# Altium footprint library led_ver2.PcbLib: 62 footprints (part 3 of 4)
Each footprint in its own frame and in the unit in brackets; x right, y up, seen from the top. Pads: shape width x height; smd on the part's side, far side on the other; paste and mask are expansions set on the pad; w line width, h text height; cw(c..) or ccw(c..) is an arc to the next point about the centre after c.
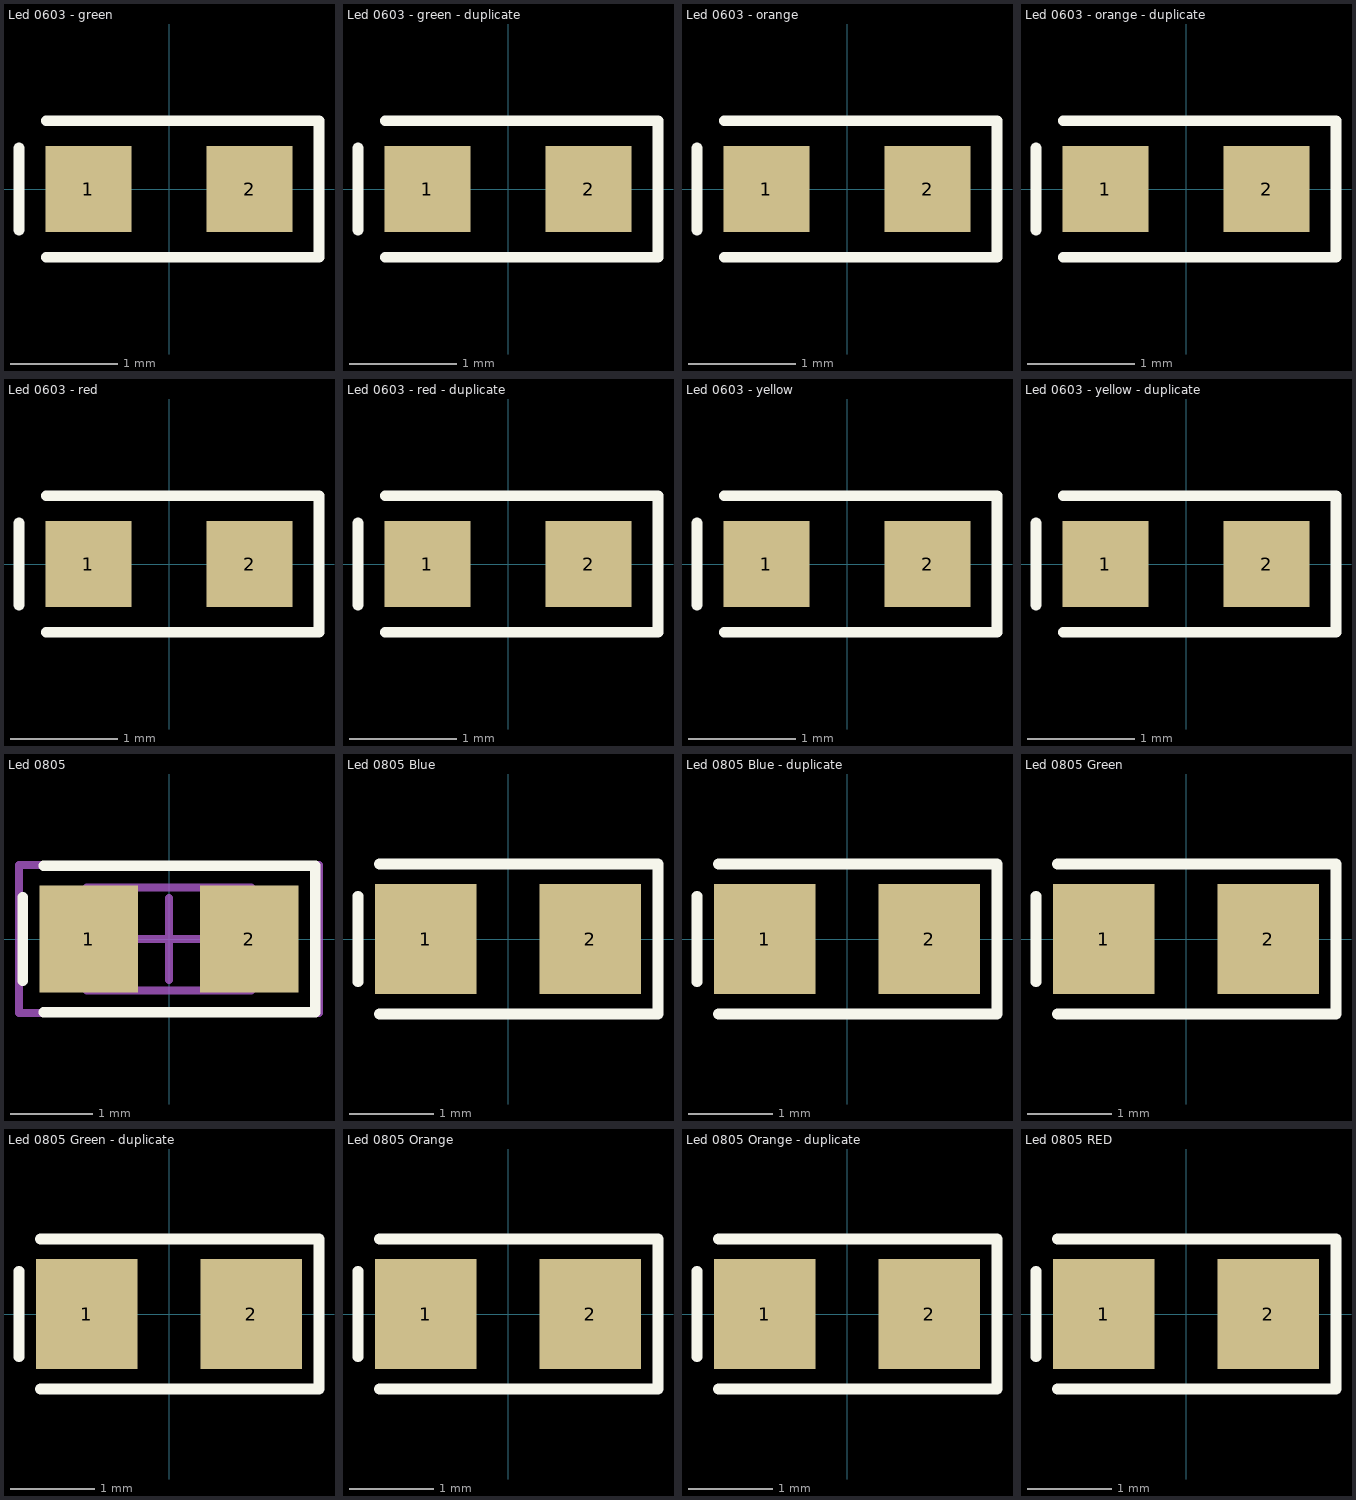
[diagram p2: the footprints below, top view; thin cyan lines are the x and y axes]

## Led 0603 - green [mm] "Led SMD 0603"
height 0.8
pads (2):
  rect 0.8x0.8 smd: 1(-0.75,0) 2(0.75,0)
Top Overlay:
  lines w0.1: -1.397,-0.381 -1.397,0.381 ; -1.143,-0.635 1.397,-0.635 1.397,0.635 -1.143,0.635
3D body "User Library-led_0603-green.step": height 0.6, standoff 0, extent -0.81,-0.4 0.81,0.4

## Led 0603 - green - duplicate [mm] "Led SMD 0603"
height 0.8
pads (2):
  rect 0.8x0.8 smd: 1(-0.75,0) 2(0.75,0)
Top Overlay:
  lines w0.1: -1.397,-0.381 -1.397,0.381 ; -1.143,-0.635 1.397,-0.635 1.397,0.635 -1.143,0.635
3D body "User Library-led_0603-green.step": height 0.6, standoff 0, extent -0.81,-0.4 0.81,0.4

## Led 0603 - orange [mm] "Led SMD 0603"
height 0.8
pads (2):
  rect 0.8x0.8 smd: 1(-0.75,0) 2(0.75,0)
Top Overlay:
  lines w0.1: -1.397,-0.381 -1.397,0.381 ; -1.143,-0.635 1.397,-0.635 1.397,0.635 -1.143,0.635
3D body "User Library-led_0603-orange.step": height 0.6, standoff 0, extent -0.81,-0.4 0.81,0.4

## Led 0603 - orange - duplicate [mm] "Led SMD 0603"
height 0.8
pads (2):
  rect 0.8x0.8 smd: 1(-0.75,0) 2(0.75,0)
Top Overlay:
  lines w0.1: -1.397,-0.381 -1.397,0.381 ; -1.143,-0.635 1.397,-0.635 1.397,0.635 -1.143,0.635
3D body "User Library-led_0603-orange.step": height 0.6, standoff 0, extent -0.81,-0.4 0.81,0.4

## Led 0603 - red [mm] "Led SMD 0603"
height 0.8
pads (2):
  rect 0.8x0.8 smd: 1(-0.75,0) 2(0.75,0)
Top Overlay:
  lines w0.1: -1.397,-0.381 -1.397,0.381 ; -1.143,-0.635 1.397,-0.635 1.397,0.635 -1.143,0.635
3D body "User Library-led_0603-red.step": height 0.6, standoff 0, extent -0.81,-0.4 0.81,0.4

## Led 0603 - red - duplicate [mm] "Led SMD 0603"
height 0.8
pads (2):
  rect 0.8x0.8 smd: 1(-0.75,0) 2(0.75,0)
Top Overlay:
  lines w0.1: -1.397,-0.381 -1.397,0.381 ; -1.143,-0.635 1.397,-0.635 1.397,0.635 -1.143,0.635
3D body "User Library-led_0603-red.step": height 0.6, standoff 0, extent -0.81,-0.4 0.81,0.4

## Led 0603 - yellow [mm] "Led SMD 0603"
height 0.8
pads (2):
  rect 0.8x0.8 smd: 1(-0.75,0) 2(0.75,0)
Top Overlay:
  lines w0.1: -1.397,-0.381 -1.397,0.381 ; -1.143,-0.635 1.397,-0.635 1.397,0.635 -1.143,0.635
3D body "User Library-led_0603-yellow.step": height 0.6, standoff 0, extent -0.81,-0.4 0.81,0.4

## Led 0603 - yellow - duplicate [mm] "Led SMD 0603"
height 0.8
pads (2):
  rect 0.8x0.8 smd: 1(-0.75,0) 2(0.75,0)
Top Overlay:
  lines w0.1: -1.397,-0.381 -1.397,0.381 ; -1.143,-0.635 1.397,-0.635 1.397,0.635 -1.143,0.635
3D body "User Library-led_0603-yellow.step": height 0.6, standoff 0, extent -0.81,-0.4 0.81,0.4

## Led 0805 [mm] "Led SMD 0805"
height 1.1
pads (2):
  rect 1.2x1.3 smd: 1(-0.975,0) 2(0.975,0)
Top Overlay:
  lines w0.127: -1.778,-0.508 -1.778,0.508 ; -1.524,-0.889 1.778,-0.889 1.778,0.889 -1.524,0.889
Mechanical 13:
  rectangle: -1,-0.625 -0.731,0.625
  lines w0.1: -1,-0.625 -1,0.625 1,0.625 1,-0.625 -1,-0.625
Mechanical 15:
  lines w0.1: -0.5,0 0.5,0 ; 0,-0.5 0,0.5 ; -1.825,-0.9 -1.825,0.9 1.825,0.9 1.825,-0.9 -1.825,-0.9
3D body "User Library-led_0805.step": height 1.1, standoff 0, extent -1.01,-0.64 1.01,0.61

## Led 0805 Blue [mm] "Led SMD 0805"
height 1.1
pads (2):
  rect 1.2x1.3 smd: 1(-0.975,0) 2(0.975,0)
Top Overlay:
  lines w0.127: -1.778,-0.508 -1.778,0.508 ; -1.524,-0.889 1.778,-0.889 1.778,0.889 -1.524,0.889
3D body "User Library-led_0805-blue.step": height 1.1, standoff 0, extent -1.01,-0.625 1.01,0.625

## Led 0805 Blue - duplicate [mm] "Led SMD 0805"
height 1.1
pads (2):
  rect 1.2x1.3 smd: 1(-0.975,0) 2(0.975,0)
Top Overlay:
  lines w0.127: -1.778,-0.508 -1.778,0.508 ; -1.524,-0.889 1.778,-0.889 1.778,0.889 -1.524,0.889
3D body "User Library-led_0805-blue.step": height 1.1, standoff 0, extent -1.01,-0.625 1.01,0.625

## Led 0805 Green [mm] "Led SMD 0805"
height 1.1
pads (2):
  rect 1.2x1.3 smd: 1(-0.975,0) 2(0.975,0)
Top Overlay:
  lines w0.127: -1.778,-0.508 -1.778,0.508 ; -1.524,-0.889 1.778,-0.889 1.778,0.889 -1.524,0.889
3D body "User Library-led_0805-green.step": height 1.1, standoff 0, extent -1.01,-0.625 1.01,0.625

## Led 0805 Green - duplicate [mm] "Led SMD 0805"
height 1.1
pads (2):
  rect 1.2x1.3 smd: 1(-0.975,0) 2(0.975,0)
Top Overlay:
  lines w0.127: -1.778,-0.508 -1.778,0.508 ; -1.524,-0.889 1.778,-0.889 1.778,0.889 -1.524,0.889
3D body "User Library-led_0805-green.step": height 1.1, standoff 0, extent -1.01,-0.625 1.01,0.625

## Led 0805 Orange [mm] "Led SMD 0805"
height 1.1
pads (2):
  rect 1.2x1.3 smd: 1(-0.975,0) 2(0.975,0)
Top Overlay:
  lines w0.127: -1.778,-0.508 -1.778,0.508 ; -1.524,-0.889 1.778,-0.889 1.778,0.889 -1.524,0.889
3D body "User Library-led_0805-orange.step": height 1.1, standoff 0, extent -1.01,-0.625 1.01,0.625

## Led 0805 Orange - duplicate [mm] "Led SMD 0805"
height 1.1
pads (2):
  rect 1.2x1.3 smd: 1(-0.975,0) 2(0.975,0)
Top Overlay:
  lines w0.127: -1.778,-0.508 -1.778,0.508 ; -1.524,-0.889 1.778,-0.889 1.778,0.889 -1.524,0.889
3D body "User Library-led_0805-orange.step": height 1.1, standoff 0, extent -1.01,-0.625 1.01,0.625

## Led 0805 RED [mm] "Led SMD 0805"
height 1.1
pads (2):
  rect 1.2x1.3 smd: 1(-0.975,0) 2(0.975,0)
Top Overlay:
  lines w0.127: -1.778,-0.508 -1.778,0.508 ; -1.524,-0.889 1.778,-0.889 1.778,0.889 -1.524,0.889
3D body "User Library-led_0805-red.step": height 1.1, standoff 0, extent -1.01,-0.625 1.01,0.625